# Altium schematic symbol library Schlib1.SchLib: 1 symbol
Pins are listed as number, name and electrical type; pins without a type are passive.

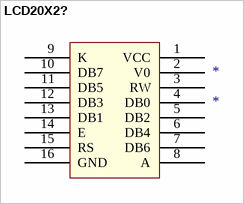
[diagram p0: symbol LCD20X2?]

## LCD20X2?
designator *
pins: 1 VCC, 2 V0, 3 RW, 4 DB0, 5 DB2, 6 DB4, 7 DB6, 8 A, 9 K, 10 DB7, 11 DB5, 12 DB3, 13 DB1, 14 E, 15 RS, 16 GND